# EAGLE library part HMC6352 (library MD-Sensors)
Compass module from Honeywell. Works very well. Schematic and footprint are production proven. Spark Fun Electronics SKU : COM-07892
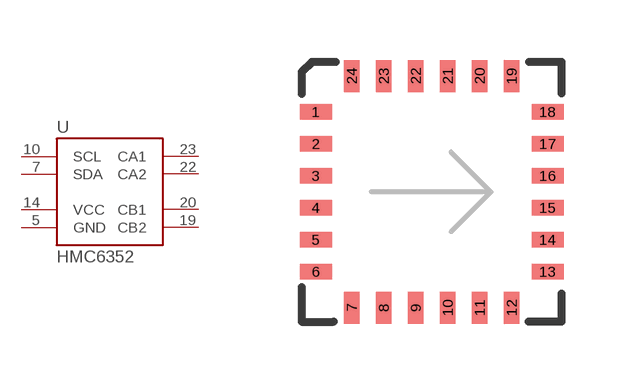
[diagram p22: symbol with the pads of LCC24; footprint LCC24]

Designator prefix -

## HMC6352  [LCC24]
5  GND
7  SDA
10  SCL
14  VCC
19  CB2
20  CB1
22  CA2
23  CA1

## Footprint LCC24 (pad centres in mm)
smd 0.8 x 0.38: 1 -2.9,2.01; 2 -2.9,1.21; 3 -2.9,0.41; 4 -2.9,-0.39; 5 -2.9,-1.19; 6 -2.9,-1.99; 13 2.9,-1.99; 14 2.9,-1.19; 15 2.9,-0.39; 16 2.9,0.41; 17 2.9,1.21; 18 2.9,2.01
smd 0.38 x 0.8: 7 -2,-2.89; 8 -1.2,-2.89; 9 -0.4,-2.89; 10 0.4,-2.89; 11 1.2,-2.89; 12 2,-2.89; 19 2,2.91; 20 1.2,2.91; 21 0.4,2.91; 22 -0.4,2.91; 23 -1.2,2.91; 24 -2,2.91